# EAGLE library part SCORBOT_CONNECTOR (library uchile_robotics_eagle_lib)
D9 Connector for Scorbot ERVII
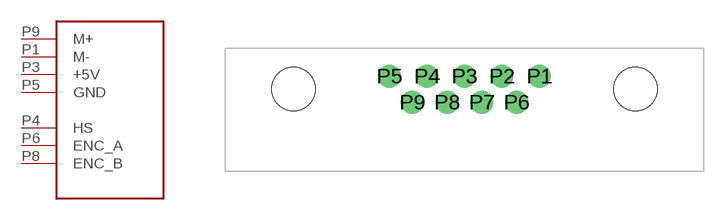
[diagram p10: symbol with the pads of XM3-LS; footprint XM3-LS]

Designator prefix -

## SCORBOT_CONNECTOR  [XM3-LS]
P1  M-  pwr
P3  +5V  pwr
P4  HS
P5  GND  pwr
P6  ENC_A
P8  ENC_B
P9  M+  pwr

## Footprint XM3-LS (pad centres in mm)
drill 1 pad 1.676: P1 17.98,0.953; P2 15.24,0.953; P3 12.5,0.953; P4 9.76,0.953; P5 7.02,0.953; P6 16.31,-0.953; P7 13.77,-0.953; P8 11.23,-0.953; P9 8.69,-0.953
hole 3.2 at 0,0
hole 3.2 at 25,0